# Altium footprint library 142-0701-301.PcbLib: 1 footprints
Each footprint in its own frame and in the unit in brackets; x right, y up, seen from the top. Pads: shape width x height; smd on the part's side, far side on the other; paste and mask are expansions set on the pad; w line width, h text height; cw(c..) or ccw(c..) is an arc to the next point about the centre after c.
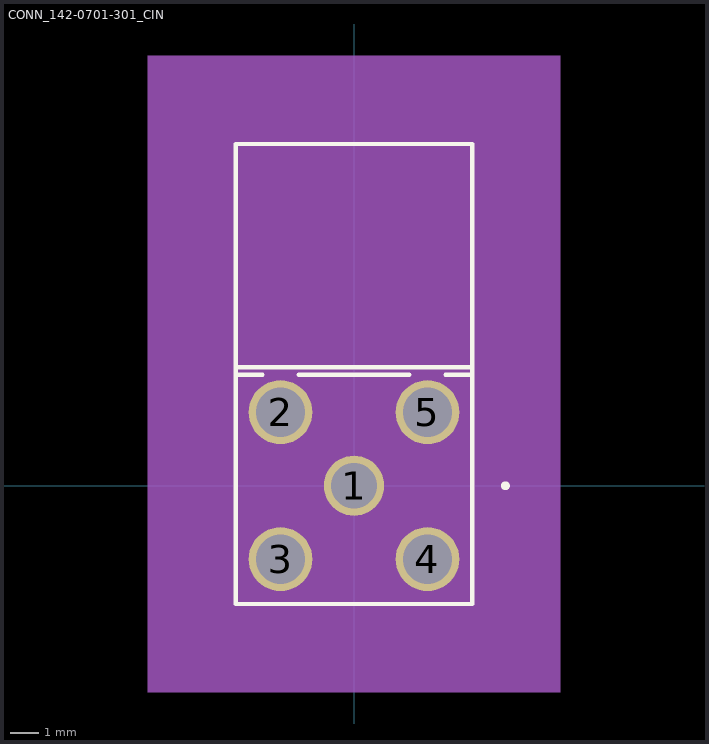
[diagram p0: the footprint, top view; thin cyan lines are the x and y axes]

## CONN_142-0701-301_CIN [mil]
pads (5):
  round 82 hole 62 mask+0: 1(0,0)
  round 87 hole 67 mask+0: 2(-100,100) 3(-100,-100) 4(100,-100) 5(100,100)
Top Overlay:
  circle w6: c206,0 r3
  lines w6: -124.55,151 -161,151 -161,465 161,465 161,151 124.55,151 ; -75.45,151 75.45,151 ; -161,-161 161,-161 161,161 -161,161 -161,-161
Mechanical 5:
  region: -281,585 281,585 281,-281 -281,-281
Mechanical 13:
  circle w0: c141,0 r3
  lines w1: -156,156 156,156 ; -156,156 -156,460 156,460 156,156 ; -156,156 156,156 ; -156,156 -156,-156 156,-156 156,156
Mechanical 15:
  region: 223.4,-172.69 -223.4,-172.69 -223.4,476.69 223.4,476.69
  lines w6: -223.4,-172.69 -223.4,476.69 223.4,476.69 223.4,-172.69 -223.4,-172.69
3D body: height 10, standoff 0, extent 0,0 10,10